# Altium footprint library AP78L05.PcbLib: 1 footprints
Each footprint in its own frame and in the unit in brackets; x right, y up, seen from the top. Pads: shape width x height; smd on the part's side, far side on the other; paste and mask are expansions set on the pad; w line width, h text height; cw(c..) or ccw(c..) is an arc to the next point about the centre after c.
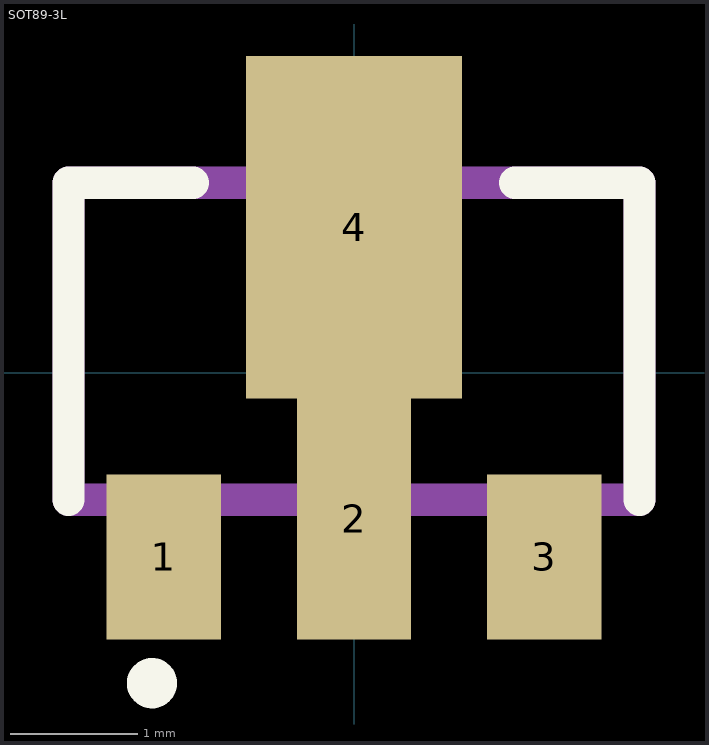
[diagram p0: the footprint, top view; thin cyan lines are the x and y axes]

## SOT89-3L [mm]
pads (4):
  rect 0.9x1.3 smd: 1(-1.5,-1.45) 3(1.5,-1.45)
  rect 0.9x1.9 smd: 2(0,-1.15)
  rect 1.7x2.7 smd: 4(0,1.15)
Top Overlay:
  circle w0.254: c-1.592,-2.445 r0.071
  lines w0.254: -2.25,-1 -2.25,1.5 -1.269,1.5 ; 1.269,1.5 2.25,1.5 2.25,-1
Mechanical 13:
  lines w0.254: -2.25,-1 -2.25,1.5 2.25,1.5 2.25,-1 -2.25,-1
3D body "SOT89-3.STEP": height 1.54, standoff 0, extent -2.214,-1.871 2.286,2.379